# EAGLE library part DIP-4X (library #PaJa_prepinace)
DIP Prepinac - 4x
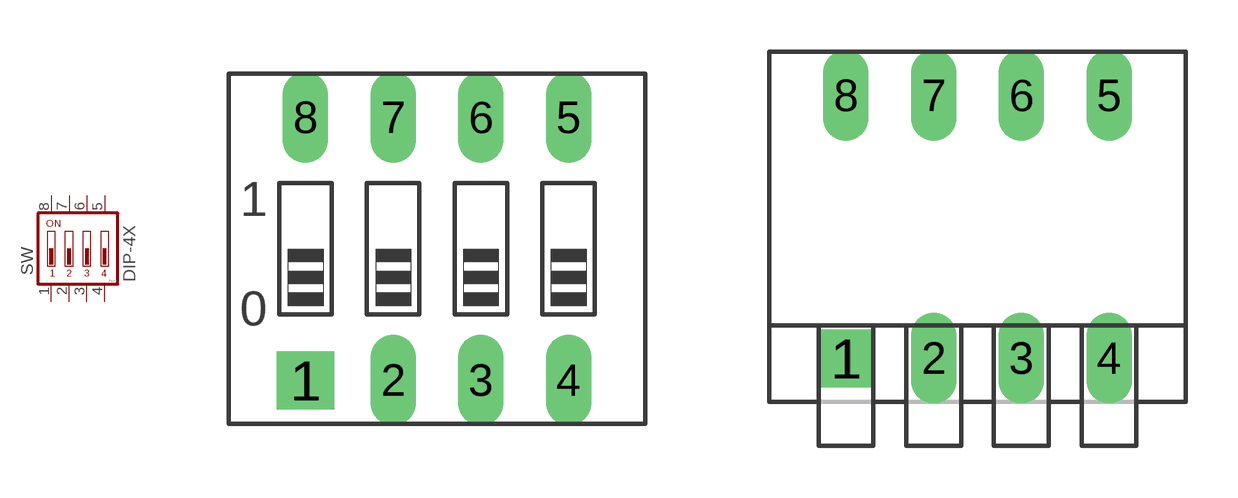
[diagram p4: symbol with the pads of DIP-4X; footprints DIP-4X, DP-04]

Designator prefix SW

## DIP-4X_DIP  [DIP-4X]
1  1  pas
2  2  pas
3  3  pas
4  4  pas
5  5  pas
6  6  pas
7  7  pas
8  8  pas

## DIP-4X_DIP_PIANO  [DP-04]
Pads as for DIP-4X

## Footprint DIP-4X (pad centres in mm)
DIP prepinac - 4x
drill 0.813 pad 1.676 square: 1 -3.81,-3.81
drill 0.813 pad 1.27 long: 2 -1.27,-3.81; 3 1.27,-3.81; 4 3.81,-3.81; 5 3.81,3.81; 6 1.27,3.81; 7 -1.27,3.81; 8 -3.81,3.81

## Footprint DP-04 (pad centres in mm)
DIP prepinac - typ piano - 4x
drill 0.813 pad 1.676 square: 1 -3.81,-3.81
drill 0.813 pad 1.27 long: 2 -1.27,-3.81; 3 1.27,-3.81; 4 3.81,-3.81; 5 3.81,3.81; 6 1.27,3.81; 7 -1.27,3.81; 8 -3.81,3.81